# Altium schematic symbol library AUVic_Schematic_Library_Capacitors.SchLib: 62 symbols
Pins are listed as number, name and electrical type; pins without a type are passive.

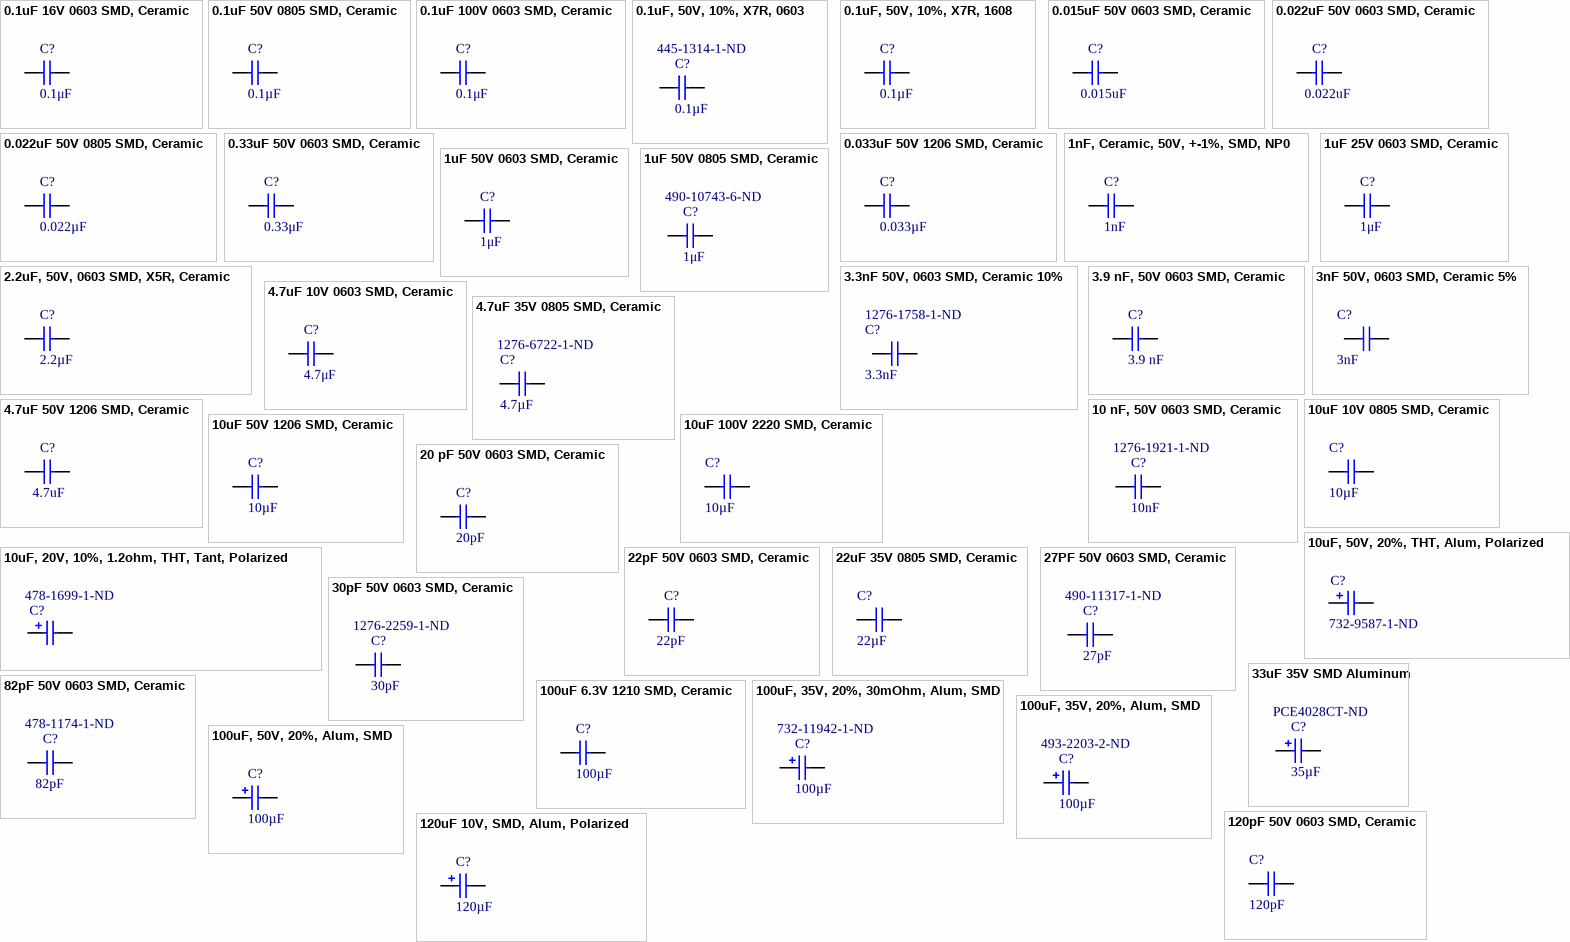
[diagram p0: symbols 0.1uF 16V 0603 SMD, Ceramic to 120uF 10V, SMD, Alum, Polarized]

## 0.1uF 16V 0603 SMD, Ceramic
designator C?, comment 0.1μF
Capacitor, Ceramic, 16V, +/- 10%, 0603 SMD, X7R; Published: 16-04-26; Publisher: AUVic; PackageDescription: Chip Capacitor; Value: 0.1μF; Created By: Andy Bates; Supplier 1: Digi-Key; Supplier Part Number 1: 1276-1005-1-ND
footprint CAPC1608N(0603") (Chip Capacitor, Body 1.6x0.8mm (0603"), IPC Medium Density)
pins: 1 Anode, 2 Cathode

## 0.1uF 50V 0805 SMD, Ceramic
designator C?, comment 0.1µF
Capacitor, Ceramic, 50V, +/-5%, 0805 SMD, X7R; Published: 2016-03-16; Publisher: AUVic; PackageDescription: Chip Capacitor; Value: 0.1µF; Supplier 1: Digi-Key; Supplier Part Number 1: 1276-1090-1-ND
footprint CAPC2012N(0805") (Chip Capacitor, Body 2.0x1.3mm (0805"), IPC Medium Density)
pins: 1 Anode, 2 Cathode

## 0.1uF 100V 0603 SMD, Ceramic
designator C?, comment 0.1μF
Capacitor, Ceramic, 100V, +/- 10%, 0603 SMD, X7R; MFG: TDK; MFG#: CGA3E3X7S2A104K080AB; Published: 16-04-26; Publisher: AUVic; PackageDescription: Chip Capacitor; Value: 0.1μF; Created By: Ashwin Sira; Supplier 1: Digi-Key; Supplier Part Number 1: 445-6938-1-ND
footprint CAPC1608N(0603") (Chip Capacitor, Body 1.6x0.8mm (0603"), IPC Medium Density)
pins: 1 Anode, 2 Cathode

## 0.1uF, 50V, 10%, X7R, 0603
designator C?  Capacitance: 0.1µF  Supplier Part Number 1: 445-1314-1-ND  (hidden comment: 0.1uF, 50V, 10%, X7R, 0603)
0.1µF ±10% Ceramic Capacitor X7R 0603 (1608 Metric); Mounting Type: Surface Mount, MLCC; Operating Temperature: -55°C ~ 125°C; Package / Case: 0603 (1608 Metric); ComponentLink1Description: Digi-Key; ComponentLink1URL: https://www.digikey.ca/product-detail/en/tdk-corporation/C1608X7R1H104M080AA/445-5098-1-ND/2093713; Supplier 1: Digi-Key; Created By: Poorna Chander Kalidas
footprint CAPC1608N(0603") (Chip Capacitor, Body 1.6x0.8mm (0603"), IPC Medium Density)
pins: 1 Anode, 2 Cathode

## 0.1uF, 50V, 10%, X7R, 1608
designator C?  Capacitance: 0.1µF  (hidden comment: 0.1uF, 50V, 10%, X7R, 1608)
CAP CER 0.1UF 50V 10% X7R 1608 (0603); Manufacturer: Samsung Electro-Mechanics America, Inc; Manufacturer Part Number: CL10B104KB8SFNC; Supplier 1: Digi-Key; RoHS: RoHS Compliant; Category: Capacitors; Stock 1: 743572; Pricing 1: 1=0.12, 10=0.033, 25=0.0232, 100=0.0152, 500=0.01064, 1000=0.00829 (CAD); Packaging: Cut Tape (CT); Tolerance: ±10%; Voltage - Rated: 50V; Temperature Coefficient: X7R; Mounting Type: Surface Mount, MLCC; Operating Temperature: -55°C ~ 125°C; Applications: Boardflex Sensitive; Ratings: -; Package / Case: 0603 (1608 Metric); Size / Dimension: 0.063" L x 0.031" W (1.60mm x 0.80mm); Height - Seated (Max): -; Thickness (Max): 0.035" (0.90mm); Lead Spacing: -; Features: Soft Termination; Lead Style: -; ComponentLink1URL: http://www.samsungsem.com/servlet/FileDownload?type=spec&file=CL10B104KB8SFNC.pdf; ComponentLink1Description: http://www.samsungsem.com/servlet/FileDownload?type=spec&file=CL10B104KB8SFNC.pdf; Supplier Part Number 1: 1276-1936-1-ND
footprint CAPC1608N(0603") (Chip Capacitor, Body 1.6x0.8mm (0603"), IPC Medium Density)
pins: 1 Anode, 2 Cathode

## 0.015uF 50V 0603 SMD, Ceramic
designator C?, comment 0.015uF
Capacitor, Ceramic, 50V, +/-10%, 0603 SMD, X7R; Value: 0.015uF; Created By: Lyden Smith; Created On: 2017-06-04; Supplier 1: Digi-Key; Supplier Part Number 1: 1276-1277-1-ND
footprint CAPC1608N(0603") (Chip Capacitor, Body 1.6x0.8mm (0603"), IPC Medium Density)
pins: 1, 2

## 0.022uF 50V 0603 SMD, Ceramic
designator C?, comment 0.022uF
Capacitor, Ceramic, 50V, +/-10%, 0603 SMD, X7R; Value: 0.022uF; Created By: Andy Bates; Created On: 2017-10-22; Supplier 1: Digi-Key; Supplier Part Number 1: 1276-1104-1-ND
footprint CAPC1608N(0603") (Chip Capacitor, Body 1.6x0.8mm (0603"), IPC Medium Density)
pins: 1, 2

## 0.022uF 50V 0805 SMD, Ceramic
designator C?, comment 0.022µF
Capacitor, Ceramic, 50V, +/-5%, 0805 SMD, X7R; Published: 14-06-01; Publisher: AUVic; PackageDescription: Chip Capacitor; Value: 0.022µF; Supplier 1: Digi-Key; Supplier Part Number 1: 1276-1826-1-ND
footprint CAPC2012N(0805") (Chip Capacitor, Body 2.0x1.3mm (0805"), IPC Medium Density)
pins: 1, 2

## 0.33uF 50V 0603 SMD, Ceramic
designator C?, comment 0.33μF
Capacitor, Ceramic, 50V, +/- 10%, 0603 SMD, X5R; MFG: TDK; MFG#: C1608X5R1H334K080AB; Published: 16-06-29; Publisher: AUVic; PackageDescription: Chip Capacitor; Value: 0.33μF; Created By: Andy Bates; Supplier 1: Digi-Key; Supplier Part Number 1: 445-7462-1-ND
footprint CAPC1608N(0603") (Chip Capacitor, Body 1.6x0.8mm (0603"), IPC Medium Density)
pins: 1 Anode, 2 Cathode

## 0.033uF 50V 1206 SMD, Ceramic
designator C?, comment 0.033µF
Capacitor, Ceramic, 50V, +/-1%, 1206 SMD, NP0; Published: 14-06-01; Publisher: AUVic; PackageDescription: Chip Capacitor; Value: 0.033µF; Supplier 1: Digi-Key; Supplier Part Number 1: 490-8325-1-ND
footprint CAPC3216N(1206") (Chip Capacitor, Body 3.2x1.6mm (1206"), IPC Medium Density)
pins: 1 Anode, 2 Cathode

## 1nF, Ceramic, 50V, +-1%, SMD, NP0
designator C?, comment 1nF
Capacitor, Ceramic, 50V, +-1%, 0603 SMD, NP0; Made By: Jordan Day; Date Created: 09/28/2016; PackageDescription: Chip Capacitor; Value: 1nF; Publisher: AUVic
footprint CAPC1608N(0603") (Chip Capacitor, Body 1.6x0.8mm (0603"), IPC Medium Density)
pins: 1 Anode, 2 Cathode

## 1uF 25V 0603 SMD, Ceramic
designator C?, comment 1μF
Capacitor, Ceramic, 25V, +/- 10%, 0603 SMD, X5R; MFG: Murata-Electronics-North-America; MFG#: GRM188R61E105KA12D; Published: 16-06-27; Publisher: AUVic; PackageDescription: Chip Capacitor; Value: 1μF; Created By: Andy Bates; Supplier 1: Digi-Key; Supplier Part Number 1: 490-3897-1-ND
footprint CAPC1608N(0603") (Chip Capacitor, Body 1.6x0.8mm (0603"), IPC Medium Density)
pins: 1 Anode, 2 Cathode

## 1uF 50V 0603 SMD, Ceramic
designator C?, comment 1μF
Capacitor, Ceramic, 50V, +/- 10%, 0603 SMD, X5R; PackageDescription: Chip Capacitor; Value: 1μF; Created By: Lyden Smith; Date Created: 2017-10-26; Supplier 1: Digi-Key; Supplier Part Number 1: 1276-1860-1-ND
footprint CAPC1608N(0603") (Chip Capacitor, Body 1.6x0.8mm (0603"), IPC Medium Density)
pins: 1 Anode, 2 Cathode

## 1uF 50V 0805 SMD, Ceramic
designator C?, comment 1μF  Supplier Part Number 1: 490-10743-6-ND
1µF ±10% Ceramic Capacitor X5R 0805 (2012 Metric); PackageDescription: Chip Capacitor; Value: 1μF; Created By: Poorna Chander Kalidas; Date Created: 2018-06-14; Supplier 1: Digi-Key
footprint CAPC2012N(0805") (Chip Capacitor, Body 2.0x1.3mm (0805"), IPC Medium Density)
pins: 1 Anode, 2 Cathode

## 2.2uF, 50V, 0603 SMD, X5R, Ceramic
designator C?, comment 2.2µF
Capacitor, Ceramic, 50V, 10%, 0603 SMD, X5R; Date Created: *; PackageDescription: Chip Capacitor; Value: 2.2µF; Made By: *; Publisher: AUVic; Supplier 1: Digi-Key; Supplier Part Number 1: 490-10733-1-ND
footprint CAPC1608N(0603") (Chip Capacitor, Body 1.6x0.8mm (0603"), IPC Medium Density)
pins: 1 Anode, 2 Cathode

## 3.3nF 50V, 0603 SMD, Ceramic 10%
designator C?, comment 3.3nF  Supplier Part Number 1: 1276-1758-1-ND
3.3nF 50V 10%; Value: 3nF; Supplier 1: Digi-Key
footprint CAPC1608N(0603") (Chip Capacitor, Body 1.6x0.8mm (0603"), IPC Medium Density)
pins: 1 Anode, 2 Cathode

## 3.9 nF, 50V 0603 SMD, Ceramic
designator C?, comment 3.9 nF
Capacitor, Ceramic, 50V, +/- 10%, 0603 SMD; MFG: Samsung; MFG#: GRM188R61A475KE15D; Published: 16-06-23; Publisher: AUVic; PackageDescription: Chip Capacitor; Value: 3.9 nF; Created By: Gabriel; Supplier 1: Digi-Key; Supplier Part Number 1: 1276-2051-1-ND
footprint CAPC1608N(0603") (Chip Capacitor, Body 1.6x0.8mm (0603"), IPC Medium Density)
pins: 1 Anode, 2 Cathode

## 3nF 50V, 0603 SMD, Ceramic 5%
designator C?, comment 3nF
3nF 50V 5%; Value: 3nF; Supplier 1: Digi-Key; Supplier Part Number 1: 490-6396-1-ND
footprint CAPC1608N(0603") (Chip Capacitor, Body 1.6x0.8mm (0603"), IPC Medium Density)
pins: 1 Anode, 2 Cathode

## 4.7uF 10V 0603 SMD, Ceramic
designator C?, comment 4.7μF
Capacitor, Ceramic, 10V, +/- 10%, 0603 SMD, X5R; MFG: Samsung; MFG#: GRM188R61A475KE15D; Published: 16-06-23; Publisher: AUVic; PackageDescription: Chip Capacitor; Value: 4.7μF; Created By: Ashwin Sira; Supplier 1: Digi-Key; Supplier Part Number 1: 490-10477-1-ND
footprint CAPC1608N(0603") (Chip Capacitor, Body 1.6x0.8mm (0603"), IPC Medium Density)
pins: 1 Anode, 2 Cathode

## 4.7uF 35V 0805 SMD, Ceramic
designator C?, comment 4.7µF  Supplier Part Number 1: 1276-6722-1-ND
Capacitor, Ceramic, 35V, +/- 10%, 0805 SMD, X5R; Made By: Andy Bates; Published: 16-11-12; Publisher: AUVic; PackageDescription: Chip Capacitor; Value: 4.7µF; Supplier 1: Digi-Key
footprint CAPC2012N(0805") (Chip Capacitor, Body 2.0x1.3mm (0805"), IPC Medium Density)
pins: 1 Anode, 2 Cathode

## 4.7uF 50V 1206 SMD, Ceramic
designator C?, comment 4.7uF
Capacitor, Ceramic, 50V, +/- 10%, 1206 SMD, X7R; Value: 4.7uF; Created By: Lyden Smith; Created On: 2017-06-04; Supplier 1: Digi-Key; Supplier Part Number 1: 587-2994-1-ND
footprint CAPC3216N(1206") (Chip Capacitor, Body 3.2x1.6mm (1206"), IPC Medium Density)
pins: 1, 2

## 10 nF, 50V 0603 SMD, Ceramic
designator C?, comment 10nF  Supplier Part Number 1: 1276-1921-1-ND
Capacitor, Ceramic, 50V, +/- 10%, 0603 SMD; MFG: Samsung; MFG#: GRM188R61A475KE15D; Published: 16-06-23; Publisher: AUVic; PackageDescription: Chip Capacitor; Value: 10nF; Created By: Gabriel; Supplier 1: Digi-Key
footprint CAPC1608N(0603") (Chip Capacitor, Body 1.6x0.8mm (0603"), IPC Medium Density)
pins: 1 Anode, 2 Cathode

## 10uF 10V 0805 SMD, Ceramic
designator C?, comment 10µF
Capacitor, Ceramic, 10V, +/- 10%, 0805 SMD, X5R; Made By: Andy Bates; Published: 14-06-23; Publisher: AUVic; PackageDescription: Chip Capacitor; Value: 10µF; Supplier 1: Digi-Key; Supplier Part Number 1: 490-4735-1-ND
footprint CAPC2012N(0805") (Chip Capacitor, Body 2.0x1.3mm (0805"), IPC Medium Density)
pins: 1 Anode, 2 Cathode

## 10uF 50V 1206 SMD, Ceramic
designator C?, comment 10µF
Capacitor, Ceramic, 50V, +/- 10%, 1206 SMD, X5R; Published: 14-06-01; Publisher: AUVic; PackageDescription: Chip Capacitor; Value: 10µF; Supplier 1: Digi-Key; Supplier Part Number 1: 1276-2876-1-ND
footprint CAPC3216N(1206") (Chip Capacitor, Body 3.2x1.6mm (1206"), IPC Medium Density)
pins: 1 Anode, 2 Cathode

## 10uF 100V 2220 SMD, Ceramic
designator C?, comment 10µF
Capacitor, Ceramic, 100V, +/- 20%, 2220 SMD, X7R; Published: 14-06-01; Publisher: AUVic; PackageDescription: Chip Capacitor; Value: 10µF; Created By: Ashwin Sira; Supplier 1: Digi-Key; Supplier Part Number 1: 478-9622-1-ND
footprint CAPC5750N(2220") (Chip Capacitor, Body 5.7x5.0mm (2220"), IPC Medium Density)
pins: 1 Anode, 2 Cathode

## 10uF, 20V, 10%, 1.2ohm, THT, Tant, Polarized
designator C?  Supplier Part Number 1: 478-1699-1-ND  (hidden comment: *)
Capacitor, Polarized, Tantalum, +/-10%; Value: 10µF; Created By: Andy Bates; Supplier 1: Digi-Key
footprint CAPC6032N(2413") POLARIZED (Chip Capacitor, Body 6.0x3.2mm (2413"), IPC Medium Density)
pins: 1 Anode, 2 Cathode

## 10uF, 50V, 20%, THT, Alum, Polarized
designator C?  Supplier Part Number 1: 732-9587-1-ND  (hidden comment: *)
Capacitor, Polarized, Aluminium, +/-20%; Value: 10µF; Created By: Ashwin Sira; Supplier 1: Digi-Key
footprint CAP_THT_POL_2mm (THT Cap, Polarized, 2mm lead spacing)
pins: 1 Anode, 2 Cathode

## 20 pF 50V 0603 SMD, Ceramic
designator C?, comment 20pF
Capacitor, Ceramic, 50V, +/- 5%, 0603 SMD, MLCC; MFG: Yageo; MFG#: CC0603JRNPO9BN200; Published: 16-06-23; Publisher: AUVic; PackageDescription: Chip Capacitor; Value: 20pF; Created By: Andy Bates; Supplier 1: Digi-Key; Supplier Part Number 1: 311-1424-1-ND
footprint CAPC1608N(0603") (Chip Capacitor, Body 1.6x0.8mm (0603"), IPC Medium Density)
pins: 1 Anode, 2 Cathode
1 alternate drawing of the same symbol

## 22pF 50V 0603 SMD, Ceramic
designator C?, comment 22pF
Capacitor, Ceramic, 50V, +/-5%, 0603 SMD, X7R; Value: 22pF; Created By: Andy Bates; Created On: 2017-10-22; Supplier 1: Digi-Key; Supplier Part Number 1: 478-1167-1-ND
footprint CAPC1608N(0603") (Chip Capacitor, Body 1.6x0.8mm (0603"), IPC Medium Density)
pins: 1, 2

## 22uF 35V 0805 SMD, Ceramic
designator C?, comment 22µF
Capacitor, Ceramic, 35V, +/- 20%, 0805 SMD, X5R; Published: 14-06-01; Publisher: AUVic; PackageDescription: Chip Capacitor; Value: 22µF; Supplier 1: Digi-Key; Supplier Part Number 1: 445-14428-1-ND
footprint CAPC2012N(0805") (Chip Capacitor, Body 2.0x1.3mm (0805"), IPC Medium Density)
pins: 1 Anode, 2 Cathode
1 alternate drawing of the same symbol

## 27PF 50V 0603 SMD, Ceramic
designator C?, comment 27pF  Supplier Part Number 1: 490-11317-1-ND
Capacitor, Ceramic, 50V, +/-2%, 0603 SMD, NP0; Published: 16-11-12; Publisher: AUVic; PackageDescription: Chip Capacitor; Value: 27pF; Supplier 1: Digi-Key
footprint CAPC1608N(0603") (Chip Capacitor, Body 1.6x0.8mm (0603"), IPC Medium Density)
pins: 1, 2
1 alternate drawing of the same symbol

## 30pF 50V 0603 SMD, Ceramic
designator C?, comment 30pF  Supplier Part Number 1: 1276-2259-1-ND
Capacitor, Ceramic, 50V, +/-1%, 0603 SMD, C0G; Made By: Andy Bates; Published: 16-09-12; Publisher: AUVic; PackageDescription: Chip Capacitor; Value: 30pF; Supplier 1: Digi-Key
footprint CAPC1608N(0603") (Chip Capacitor, Body 1.6x0.8mm (0603"), IPC Medium Density)
pins: 1, 2
1 alternate drawing of the same symbol

## 33uF 35V SMD Aluminum
designator C?, comment 35µF  Supplier Part Number 1: PCE4028CT-ND
Capacitor, Polarized, Aluminum, 35V; Published: June 06, 2017; LatestRevisionDate: June 06, 2017; Publisher: Andy Bates; PackageDescription: Chip Capacitor; Value: 35µF; Supplier 1: Digikey
footprint Radial_CAN_8.3mm_10.5mm (Radial Electrolytic Can, 8.3mm Radius, 10.5mm Height)
pins: 1 Anode, 2 Cathode
1 alternate drawing of the same symbol

## 82pF 50V 0603 SMD, Ceramic
designator C?, comment 82pF  Supplier Part Number 1: 478-1174-1-ND
82pF 50V Ceramic Capacitor C0G, NP0 0603; Value: 82pF; Created By: Robert Keen; Created On: 2018-07-18; ComponentLink1Description: Digikey; ComponentLink1URL: https://www.digikey.ca/product-detail/en/avx-corporation/06035A820JAT2A/478-1174-1-ND/564206; Supplier 1: Digi-Key
footprint CAPC1608N(0603") (Chip Capacitor, Body 1.6x0.8mm (0603"), IPC Medium Density)
pins: 1, 2

## 100uF 6.3V 1210 SMD, Ceramic
designator C?, comment 100µF
Capacitor, Ceramic, 6.3V, +/- 10%, 1210 SMD, X5R; Published: 14-06-01; Publisher: AUVic; PackageDescription: Chip Capacitor; Value: 100µF; Supplier 1: Digi-Key; Supplier Part Number 1: 478-5047-1-ND
footprint CAPC3225N(1210") (Chip Capacitor, Body 3.2x2.5mm (1210"), IPC Medium Density)
pins: 1 Anode, 2 Cathode
1 alternate drawing of the same symbol

## 100uF, 35V, 20%, 30mOhm, Alum, SMD
designator C?, comment 100µF  Supplier Part Number 1: 732-11942-1-ND
100µF 35V Aluminum Polymer Capacitor Radial, Can - SMD 30mOhm 2000 Hrs @ 105°C; Created By: Poorna Chander Kalidas; PackageDescription: Can; Value: 100µF; Date Created: 2020-02-15; Supplier 1: Digi-Key
footprint Radial_CAN_6.6mm (Radial Electrolytic Can, 8.3mm Radius, 10.5mm Height)
pins: 1 Anode, 2 Cathode
1 alternate drawing of the same symbol

## 100uF, 35V, 20%, Alum, SMD
designator C?, comment 100µF  Supplier Part Number 1: 493-2203-2-ND
100µF 35V Aluminum Electrolytic Capacitors Radial, Can - SMD 1000 Hrs @ 105°C; Created By: Poorna Chander Kalidas; PackageDescription: Can; Value: 100µF; Date Created: 2018-06-01; Supplier 1: Digi-Key
footprint Radial_CAN_6.6mm (Radial Electrolytic Can, 8.3mm Radius, 10.5mm Height)
pins: 1 Anode, 2 Cathode
1 alternate drawing of the same symbol

## 100uF, 50V, 20%, Alum, SMD
designator C?, comment 100µF
Capacitor, Polarized, Aluminum, 50V; Created By: Ashwin Sira; PackageDescription: Can; Value: 100µF; Date Created: 2016-06-25; Publisher: AUVic; Supplier 1: Digi-Key; Supplier Part Number 1: 732-8461-1-ND
footprint Radial_CAN_8.3mm_10.5mm (Radial Electrolytic Can, 8.3mm Radius, 10.5mm Height)
pins: 1 Anode, 2 Cathode
1 alternate drawing of the same symbol

## 120pF 50V 0603 SMD, Ceramic
designator C?, comment 120pF
Capacitor, Ceramic, 50V, +/-5%, 0603 SMD, C0G NP0; Created On: 2017-06-05; Value: 120pF; Created By: Lyden Smith; Supplier 1: Digi-Key; Supplier Part Number 1: 490-7221-1-ND
footprint CAPC1608N(0603") (Chip Capacitor, Body 1.6x0.8mm (0603"), IPC Medium Density)
pins: 1 Anode, 2 Cathode
1 alternate drawing of the same symbol

## 120uF 10V, SMD, Alum, Polarized
designator C?, comment 120µF
Capacitor, Polarized, Aluminum, 10V, +/- 20%, SMD, ESR: 25mOhm; Published: August 31, 2013; Publisher: UVic AERO; PackageDescription: SMD Capacitor; Supplier 1: Digi-Key; Supplier Part Number 1: 565-3200-1-ND; Voltage: 10V; Value: 120µF
footprint APXE100ARA121MF61G (Capacitor, SMD, Digi#565-3200-1-ND, United Chemi-Con)
pins: 1 Anode, 2 Cathode
1 alternate drawing of the same symbol

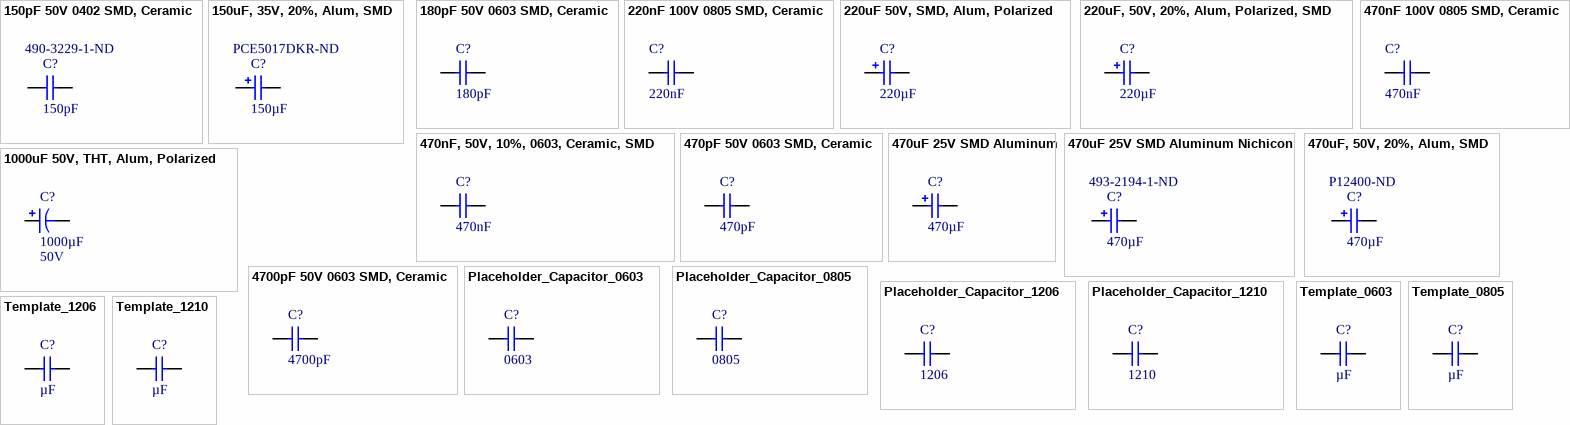
[diagram p1: symbols 150pF 50V 0402 SMD, Ceramic to Template_1210]

## 150pF 50V 0402 SMD, Ceramic
designator C?, comment 150pF  Supplier Part Number 1: 490-3229-1-ND
Capacitor, Ceramic, 50V, +/-5%, 0402 SMD; Published: 2017-09-20; Publisher: Lyden Smith; PackageDescription: Chip Capacitor; Value: 150pF; Supplier 1: Digi-Key
footprint CAPC2012N(0805") (Chip Capacitor, Body 2.0x1.3mm (0805"), IPC Medium Density)
pins: 1 Anode, 2 Cathode

## 150uF, 35V, 20%, Alum, SMD
designator C?, comment 150µF  Supplier Part Number 1: PCE5017DKR-ND
150µF 35V Aluminum Electrolytic Capacitors Radial, Can - SMD 160 mohm @ 100kHz 2000 Hrs @ 105°C; Created By: Poorna Chander Kalidas; PackageDescription: Can; Value: 150µF; Date Created: 2018-06-13; Supplier 1: Digi-Key
footprint 6.3mm Dia Radial SMD
pins: 1 Anode, 2 Cathode
1 alternate drawing of the same symbol

## 180pF 50V 0603 SMD, Ceramic
designator C?, comment 180pF
Capacitor, Ceramic, 50V, +/-5%, 0603 SMD, NP0; Date Created: 2017-09-22; Created By: Lyden Smith; PackageDescription: Chip Capacitor; Value: 180pF; Supplier 1: Digi-Key; Supplier Part Number 1: 1276-1255-1-ND
footprint CAPC1608N(0603") (Chip Capacitor, Body 1.6x0.8mm (0603"), IPC Medium Density)
pins: 1, 2
1 alternate drawing of the same symbol

## 220nF 100V 0805 SMD, Ceramic
designator C?, comment 220nF
Capacitor, Ceramic, 100V, +/- 10%, 0805 SMD, X7R; Published: 16-04-26; Publisher: AUVic; PackageDescription: Chip Capacitor; Value: 220nF; Created By: Ashwin Sira; Supplier 1: Digi-Key; Supplier Part Number 1: 1276-2949-1-ND
footprint CAPC2012N(0805") (Chip Capacitor, Body 2.0x1.3mm (0805"), IPC Medium Density)
pins: 1 Anode, 2 Cathode
1 alternate drawing of the same symbol

## 220uF 50V, SMD, Alum, Polarized
designator C?, comment 220µF
Capacitor, Polarized, Aluminum, 50V, +/- 20%, SMD; Published: April 30, 2010; LatestRevisionDate: May 18, 2010; LatestRevisionNote: Updated mechcanical dimensions, added 3D model.; Publisher: TRAXX Automation Ltd.; PackageDescription: SMD Capacitor; Value: 220µF; Supplier 1: Digi-Key; Supplier Part Number 1: PCE3921CT-ND; Voltage: 50V
footprint EEE-1HA221P (Capacitor, SMD, Digi#PCE3921CT-ND, Panasonic-ECG)
pins: 1 Anode, 2 Cathode
1 alternate drawing of the same symbol

## 220uF, 50V, 20%, Alum, Polarized, SMD
designator C?, comment 220µF
Capacitor, Polarized, Aluminum, 50V; Created By: Ashwin Sira; PackageDescription: Can; Value: 220µF; Date Created: 2016-06-25; Publisher: AUVic; Supplier 1: Digi-Key; Supplier Part Number 1: PCE5025CT-ND
footprint Radial_CAN_8.3mm_10.5mm (Radial Electrolytic Can, 8.3mm Radius, 10.5mm Height)
pins: 1 Anode, 2 Cathode
1 alternate drawing of the same symbol

## 470nF 100V 0805 SMD, Ceramic
designator C?, comment 470nF
Capacitor, Ceramic, 100V, +/- 10%, 0805 SMD, X7R; Published: 16-04-26; Publisher: AUVic; PackageDescription: Chip Capacitor; Value: 470nF; Created By: Ashwin Sira; Supplier 1: Digi-Key; Supplier Part Number 1: 490-3326-1-ND
footprint CAPC2012N(0805") (Chip Capacitor, Body 2.0x1.3mm (0805"), IPC Medium Density)
pins: 1 Cathode, 2 Anode
1 alternate drawing of the same symbol

## 470nF, 50V, 10%, 0603, Ceramic, SMD
designator C?, comment 470nF
Capacitor, Ceramic, 50V, 10%, 0603 SMD, X7R; Made By: Ashwin Sira; Date Created: 2016-06-25; PackageDescription: Chip Capacitor; Value: 470nF; Publisher: AUVic; Supplier 1: Digi-Key; Supplier Part Number 1: 445-5952-1-ND
footprint CAPC1608N(0603") (Chip Capacitor, Body 1.6x0.8mm (0603"), IPC Medium Density)
pins: 1 Anode, 2 Cathode
1 alternate drawing of the same symbol

## 470pF 50V 0603 SMD, Ceramic
designator C?, comment 470pF
Capacitor, Ceramic, 50V, +/- 10%, 0603 SMD, X7R; Published: May 11, 2010; LatestRevisionDate: May 11, 2010; Publisher: TRAXX Automation Ltd.; PackageDescription: Chip Capacitor; Value: 470pF; Supplier 1: Digi-Key; Supplier Part Number 1: 490-1489-1-ND
footprint CAPC1608N(0603") (Chip Capacitor, Body 1.6x0.8mm (0603"), IPC Medium Density)
pins: 1, 2
1 alternate drawing of the same symbol

## 470uF 25V SMD Aluminum
designator C?, comment 470µF
Capacitor, Polarized, Aluminum, 25V; Published: July 23, 2012; LatestRevisionDate: July 23, 2012; Publisher: Ashwin Sira; PackageDescription: Chip Capacitor; Value: 470µF; Supplier 1: Digi-Key; Supplier Part Number 1: PCE4418TR-ND
footprint EEE-1HA221P (Capacitor, SMD, Digi#PCE3921CT-ND, Panasonic-ECG)
pins: 1 Anode, 2 Cathode
1 alternate drawing of the same symbol

## 470uF 25V SMD Aluminum Nichicon
designator C?, comment 470µF  Supplier Part Number 1: 493-2194-1-ND
470µF 25V Aluminum Electrolytic Capacitors Radial, Can - SMD 1000 Hrs @ 105°C; Publisher: Poorna Chander Kalidas; PackageDescription: Chip Capacitor; Value: 470µF; Supplier 1: Digi-Key
footprint EEE-1HA221P (Capacitor, SMD, Digi#PCE3921CT-ND, Panasonic-ECG)
pins: 1 Anode, 2 Cathode
1 alternate drawing of the same symbol

## 470uF, 50V, 20%, Alum, SMD
designator C?, comment 470µF  Supplier Part Number 1: P12400-ND
470µF 50V Aluminum Electrolytic Capacitors Radial, Can 5000 Hrs @ 105°C; Created By: Poorna Chander Kalidas; PackageDescription: Can; Value: 470µF; Date Created: 2018-06-13; ComponentLink1Description: Digi-Key; ComponentLink1URL: https://www.digikey.ca/product-detail/en/panasonic-electronic-components/EEU-FM1H471/P12400-ND/613761; Supplier 1: Digi-Key
footprint 12.5mm Dia Radial THD
pins: 1 Anode, 2 Cathode
1 alternate drawing of the same symbol

## 1000uF 50V, THT, Alum, Polarized
designator C?, comment 1000µF  Voltage: 50V
Capacitor, Polarized, Aluminum, 50V, +/- 20%, THT; Published: April 30, 2010; LatestRevisionDate: April 30, 2010; Publisher: TRAXX Automation Ltd.; PackageDescription: Thru-Hole Capacitor; Supplier 1: Digi-Key; Supplier Part Number 1: P5186-ND; Value: 1000µF
footprint P5186-ND (Capacitor, THT, Digi#732-1209-1-ND, Panasonic-ECG)
pins: 1 Anode, 2 Cathode
1 alternate drawing of the same symbol

## 4700pF 50V 0603 SMD, Ceramic
designator C?, comment 4700pF
Capacitor, Ceramic, 50V, +/-5%, 0603 SMD, NP0; Published: 14-06-01; Publisher: AUVic; PackageDescription: Chip Capacitor; Value: 4700pF; Supplier 1: Digi-Key; Supplier Part Number 1: 445-7400-1-ND
footprint CAPC1608N(0603") (Chip Capacitor, Body 1.6x0.8mm (0603"), IPC Medium Density)
pins: 1, 2
1 alternate drawing of the same symbol

## Placeholder_Capacitor_0603
designator C?, comment 0603  (no BOM)
Placeholder 0603 SMT Footprint; Value: 0F; Made By: Ashwin Sira; Date Created: 2016-06-26; PackageDescription: Chip Capacitor; Publisher: AUVic
footprint CAPC1608N(0603") (Chip Capacitor, Body 1.6x0.8mm (0603"), IPC Medium Density)
pins: 1 Anode, 2 Cathode
1 alternate drawing of the same symbol

## Placeholder_Capacitor_0805
designator C?, comment 0805  (no BOM)
Placeholder 0805 SMT Footprint; Value: 0F; Made By: Ashwin Sira; Date Created: 2016-06-26; PackageDescription: Chip Capacitor; Publisher: AUVic
footprint CAPC2012N(0805") (Chip Capacitor, Body 2.0x1.3mm (0805"), IPC Medium Density)
pins: 1 Anode, 2 Cathode
1 alternate drawing of the same symbol

## Placeholder_Capacitor_1206
designator C?, comment 1206  (no BOM)
Placeholder 1206 SMT Footprint; Value: 0F; Made By: Ashwin Sira; Date Created: 2016-06-26; Publisher: AUVic; PackageDescription: Chip Capacitor
footprint CAPC3216N(1206") (Chip Capacitor, Body 3.2x1.6mm (1206"), IPC Medium Density)
pins: 1 Anode, 2 Cathode
1 alternate drawing of the same symbol

## Placeholder_Capacitor_1210
designator C?, comment 1210  (no BOM)
Placeholder 1210 SMT Footprint; Value: 0F; Made By: Ashwin Sira; Date Created: 2016-06-26; Publisher: AUVic; PackageDescription: Chip Capacitor
footprint CAPC3225N(1210") (Chip Capacitor, Body 3.2x2.5mm (1210"), IPC Medium Density)
pins: 1 Anode, 2 Cathode
1 alternate drawing of the same symbol

## Template_0603
designator C?, comment µF
Capacitor, Type, Voltage, Tolerance, 0603 SMD, Temperature Coefficient; Date Created: *; PackageDescription: Chip Capacitor; Value: µF; Made By: *; Publisher: AUVic
footprint CAPC1608N(0603") (Chip Capacitor, Body 1.6x0.8mm (0603"), IPC Medium Density)
pins: 1 Anode, 2 Cathode
1 alternate drawing of the same symbol

## Template_0805
designator C?, comment µF
Capacitor, Type, Voltage, Tolerance, 0805 SMD, Temperature Coefficient; Date Created: *; PackageDescription: Chip Capacitor; Value: µF; Made By: *; Publisher: AUVic
footprint CAPC2012N(0805") (Chip Capacitor, Body 2.0x1.3mm (0805"), IPC Medium Density)
pins: 1 Anode, 2 Cathode
1 alternate drawing of the same symbol

## Template_1206
designator C?, comment µF
Capacitor, Type, Voltage, Tolerance, 1206 SMD, Temperature Coefficient; Date Created: *; Publisher: AUVic; PackageDescription: Chip Capacitor; Value: µF; Made By: *
footprint CAPC3216N(1206") (Chip Capacitor, Body 3.2x1.6mm (1206"), IPC Medium Density)
pins: 1 Anode, 2 Cathode
1 alternate drawing of the same symbol

## Template_1210
designator C?, comment µF
Capacitor, Type, Voltage, Tolerance, 1210 SMD, Temperature Coefficient; Publisher: AUVic; PackageDescription: Chip Capacitor; Value: µF; Made By: *
footprint CAPC3225N(1210") (Chip Capacitor, Body 3.2x2.5mm (1210"), IPC Medium Density)
pins: 1 Anode, 2 Cathode
1 alternate drawing of the same symbol